# EAGLE library part TUSB319IDRFRQ1 (library Beechat_crank)
Automotive USB Type-C DFP Port Controller Source: Datasheet <http://www.ti.com/lit/gpn/tusb319-q1>
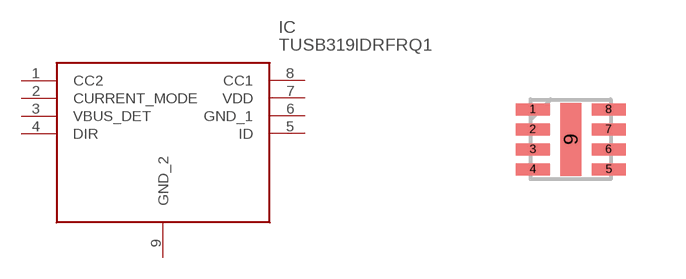
[diagram p2: symbol with the pads of SON50P200X200X80-9N; footprint SON50P200X200X80-9N]

Designator prefix IC

## TUSB319IDRFRQ1 (DESCRIPTION: Automotive USB Type-C DFP Port Controller; HEIGHT: 0.8mm; MANUFACTURER_NAME: Texas Instruments; MANUFACTURER_PART_NUMBER: TUSB319IDRFRQ1; MOUSER_PART_NUMBER: 595-TUSB319IDRFRQ1; MOUSER_PRICE-STOCK: https://www.mouser.co.uk/ProductDetail/Texas-Instruments/TUSB319IDRFRQ1?qs=yBt6ao%2FxsTw8wCSu2pX1OA%3D%3D)  [SON50P200X200X80-9N]
1  CC2
2  CURRENT_MODE
3  VBUS_DET
4  DIR
5  ID
6  GND_1
7  VDD
8  CC1
9  GND_2

## Footprint SON50P200X200X80-9N (pad centres in mm)
TUSB319IDRFRQ1
smd 0.85 x 0.3: 1 -0.95,0.75; 2 -0.95,0.25; 3 -0.95,-0.25; 4 -0.95,-0.75; 5 0.95,-0.75; 6 0.95,-0.25; 7 0.95,0.25; 8 0.95,0.75
smd 0.525 x 1.825: 9 0,0